# EAGLE library part HCF4072BEY (library ST_Microelctronics_By_element14_Batch_1)
OR GATE
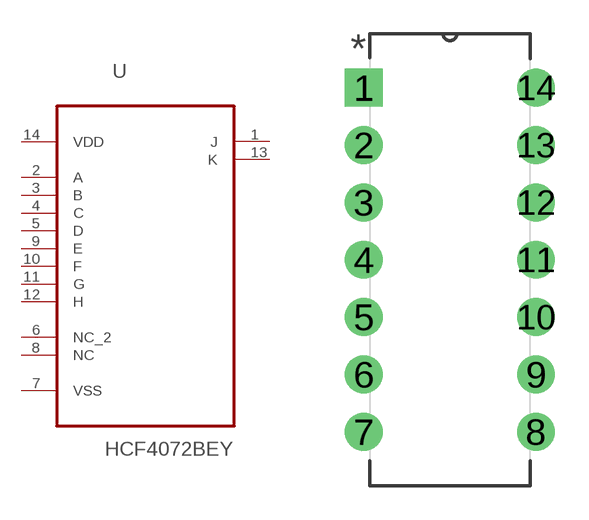
[diagram p17: symbol with the pads of DIP254P762X510-14; footprint DIP254P762X510-14]

Designator prefix U

## HCF4072BEY (MPN: HCF4072BEY; OC_FARNELL: 1209161; OC_NEWARK: -; PACKAGE: 14-DIP; SUPPLIER: STMICROELECTRONICS)  [DIP254P762X510-14]
1  J  out
2  A  in
3  B  in
4  C  in
5  D  in
6  NC_2  nc
7  VSS  pwr
8  NC  nc
9  E  in
10  F  in
11  G  in
12  H  in
13  K  out
14  VDD  pwr

## Footprint DIP254P762X510-14 (pad centres in mm)
drill 1.118 square: 1 -7.62,15.24
drill 1.118: 2 -7.62,12.7; 3 -7.62,10.16; 4 -7.62,7.62; 5 -7.62,5.08; 6 -7.62,2.54; 7 -7.62,0; 8 0,0; 9 0,2.54; 10 0,5.08; 11 0,7.62; 12 0,10.16; 13 0,12.7; 14 0,15.24